# Altium footprint library 5-Pcblib_Led.PcbLib: 25 footprints (part 1 of 2)
Each footprint in its own frame and in the unit in brackets; x right, y up, seen from the top. Pads: shape width x height; smd on the part's side, far side on the other; paste and mask are expansions set on the pad; w line width, h text height; cw(c..) or ccw(c..) is an arc to the next point about the centre after c.
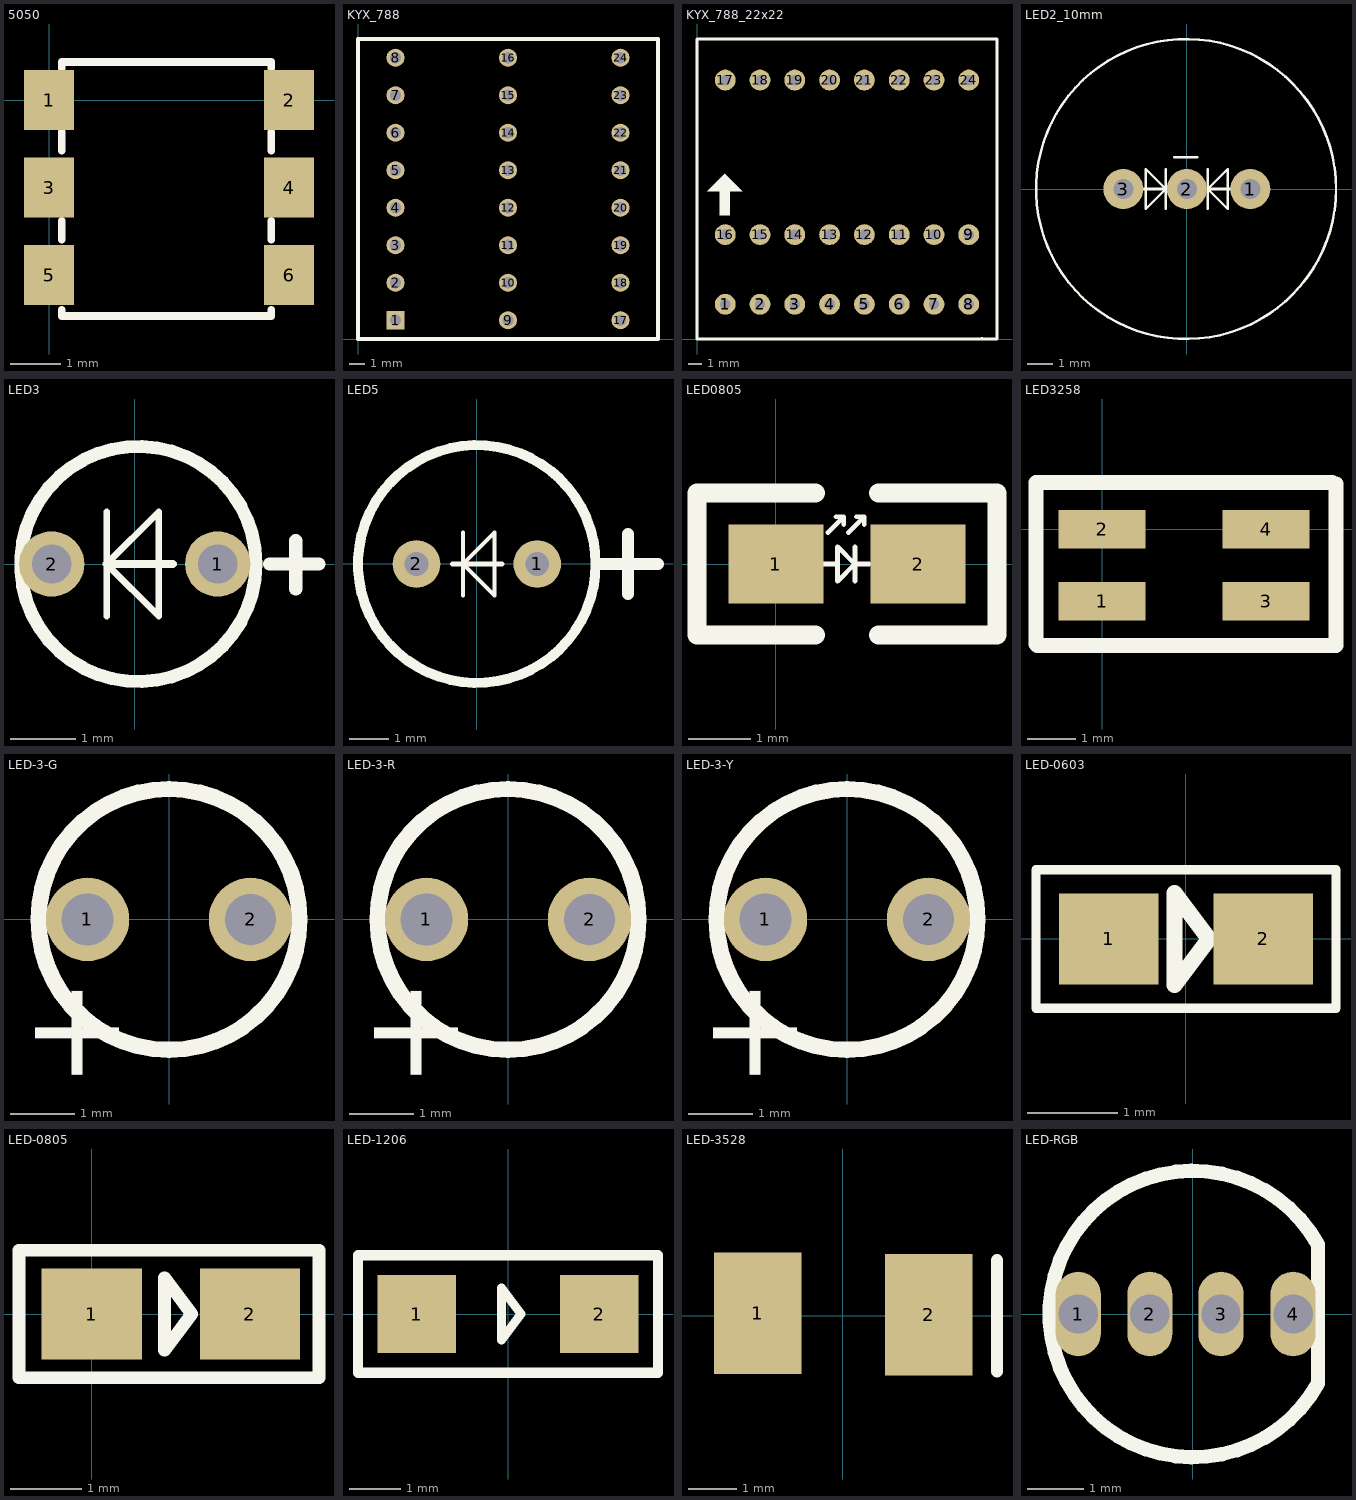
[diagram p0: the footprints below, top view; thin cyan lines are the x and y axes]

## 5050 [mm]
pads (6):
  rect 1x1.2 smd: 1(0,0) 2(4.8,0) 3(0,-1.75) 4(4.8,-1.75) 5(0,-3.5) 6(4.8,-3.5)
Top Overlay:
  lines w0.152: 0.254,-4.191 0.254,-4.318 4.445,-4.318 4.445,-4.191 ; 0.254,-2.794 0.254,-2.413 ; 0.254,-1.016 0.254,-0.635 ; 0.254,0.635 0.254,0.762 4.445,0.762 4.445,0.635 ; 4.445,-2.794 4.445,-2.413 ; 4.445,-1.016 4.445,-0.635

## KYX_788 [mm]
pads (24):
  rect 1.2x1.2 hole 0.762: 1(2.5,1.25)
  round 1.2 hole 0.762: 2(2.5,3.75) 3(2.5,6.25) 4(2.5,8.75) 5(2.5,11.25) 6(2.5,13.75) 7(2.5,16.25) 8(2.5,18.75) 9(10,1.25) 10(10,3.75) 11(10,6.25) 12(10,8.75) 13(10,11.25) 14(10,13.75) 15(10,16.25) 16(10,18.75) 17(17.5,1.25) 18(17.5,3.75) 19(17.5,6.25) 20(17.5,8.75) 21(17.5,11.25) 22(17.5,13.75) 23(17.5,16.25) 24(17.5,18.75)
Top Overlay:
  lines w0.254: 0,0 0,20 20,20 20,0 0,0

## KYX_788_22x22 [mil]
pads (24):
  round 60 hole 30: 1(81.1,100) 2(181.1,100) 3(281.1,100) 4(381.1,100) 5(481.1,100) 6(581.1,100) 7(681.1,100) 8(781.1,100) 9(781.1,300) 10(681.1,300) 11(581.1,300) 12(481.1,300) 13(381.1,300) 14(281.1,300) 15(181.1,300) 16(81.1,300) 17(81.1,744.09) 18(181.1,744.09) 19(281.1,744.09) 20(381.1,744.09) 21(481.1,744.09) 22(581.1,744.09) 23(681.1,744.09) 24(781.1,744.09)
Top Overlay:
  rectangle: 65,355 95,425
  region: 30,425 130,425 80,475
  lines w10: 818.94,1.22 819.92,0.24 ; 862.2,0 0,0 0,862.2 862.2,862.2 862.2,0.24

## LED2_10mm [mm] "DualColor"
pads (3):
  round 1.6 hole 0.8: 1(2.54,0) 2(0,0) 3(-2.54,0)
Top Overlay:
  circle w0.1: c-0.031,0 r6
  lines w0.1: -0.84,-0.8 -0.84,0 ; -0.84,0.8 -0.84,0 ; -0.508,1.27 0.416,1.27 ; 0.84,-0.8 0.84,0 ; 0.84,0.8 0.84,0 ; -0.84,0 -1.64,-0.8 -1.64,0.8 -0.84,0 ; 0.84,0 1.64,0.8 1.64,-0.8 0.84,0
  lines w0.127: -1.854,0 -0.84,0 ; 0.84,0 1.854,0
3D body: height 1, standoff -15.94, extent -5.95,-5.95 5.95,5.95

## LED3 [mm]
pads (2):
  round 1 hole 0.6: 1(1.27,0) 2(-1.27,0)
Top Overlay:
  circle w0.2: c0.054,0 r1.8
  lines w0.1: -0.43,-0.8 -0.43,0 ; -0.43,0.8 -0.43,0 ; -0.43,0 0.37,0.8 0.37,-0.8 -0.43,0
  lines w0.127: -0.43,0 0.584,0
  lines w0.2: 2.066,0 2.819,0 ; 2.464,-0.381 2.464,0.356
3D body: height 5.2, standoff -2, extent -1.778,-1.99 1.742,2.007

## LED5 [mm]
pads (2):
  round 1.2 hole 0.6: 1(1.524,0) 2(-1.524,0)
Top Overlay:
  circle w0.254: c0,0 r3
  lines w0.1: -0.354,-0.8 -0.354,0 ; -0.354,0.8 -0.354,0 ; -0.354,0 0.446,0.8 0.446,-0.8 -0.354,0
  lines w0.127: -0.61,0 0.635,0
  lines w0.305: 3.048,0 4.572,0 ; 3.81,-0.762 3.81,0.762
3D body: height 8.6, standoff -2, extent -2.827,-2.905 2.523,2.794

## LED0805 [mil]
height 35
pads (2):
  rect 60x50 smd: 1(0,0) 2(90,0)
Top Overlay:
  lines w3: 29,0 39,0 ; 33,20 43,30 ; 38,30 43,30 ; 43,25 43,30 ; 46,20 56,30 ; 50,-11 50,11 ; 51,30 56,30 ; 56,25 56,30 ; 59,0 50,0 ; 50,0 39,11 39,-11 50,0
  lines w12: 25,-45 -50,-45 -50,45 25,45 ; 65,-45 140,-45 140,45 65,45

## LED3258 [mm]
pads (4):
  rect 1.8x0.8 smd: 1(0,-1.5) 2(0,0) 3(3.4,-1.5) 4(3.4,0)
Top Overlay:
  lines w0.305: -1.372,0.94 -1.372,-2.388 -1.346,-2.413 4.851,-2.413 ; -1.372,0.965 4.775,0.965 ; 4.851,-2.388 4.851,0.94
3D body: height 1.9, standoff 0, extent -0.099,-2.112 3.401,0.588

## LED-3-G [mm]
pads (2):
  round 1.3 hole 0.81: 1(-1.27,0)
  round 1.3 hole 0.8: 2(1.27,0)
Top Overlay:
  circle w0.254: c0,0 r2.032
  text "+" at -0.775,-2.642 h1.52
3D body: height 14.25, standoff -6, extent -2.021,-2.003 1.499,1.994

## LED-3-R [mm]
pads (2):
  round 1.3 hole 0.81: 1(-1.27,0)
  round 1.3 hole 0.8: 2(1.27,0)
Top Overlay:
  circle w0.254: c0,0 r2.032
  text "+" at -0.775,-2.642 h1.52
3D body: height 14.25, standoff -6, extent -2.014,-1.99 1.506,2.007

## LED-3-Y [mm]
pads (2):
  round 1.3 hole 0.81: 1(-1.27,0)
  round 1.3 hole 0.8: 2(1.27,0)
Top Overlay:
  circle w0.254: c0,0 r2.032
  text "+" at -0.775,-2.642 h1.52
3D body: height 14.25, standoff -6, extent -2.013,-2.024 1.507,1.973

## LED-0603 [mm]
height 0.6
pads (2):
  rect 1.1x1 smd: 1(-0.85,0) 2(0.85,0)
Top Overlay:
  lines w0.1: -1.651,-0.762 0.254,-0.762 1.651,-0.762 1.651,0.762 0.254,0.762 -1.651,0.762 -1.651,-0.762
  lines w0.178: -0.127,-0.508 0.254,0 -0.127,0.508 -0.127,-0.508
3D body: height 1.1, standoff 0, extent -0.762,-0.381 0.858,0.419

## LED-0805 [mm]
pads (2):
  rect 1.4x1.27 smd: 1(0,0) 2(2.21,0)
Top Overlay:
  lines w0.178: -1.016,-0.889 3.175,-0.889 3.175,0.889 -1.016,0.889 -1.016,0.445 -1.016,-0.445 -1.016,-0.889 ; 1.016,-0.508 1.016,0.508 1.397,0 1.016,-0.508
3D body: height 1.1, standoff 0, extent 0.006,-0.615 2.026,0.635

## LED-1206 [mil] "贴片发光二极管"
height 59.06
pads (2):
  rect 60x60 smd: 1(-70,0) 2(70,0)
Top Overlay:
  lines w7: -5,-20 -5,20 10,0 -5,-20
  lines w7.87: -115,-45 40,-45 115,-45 115,45 40,45 -115,45 -115,-45
3D body: height 43.31, standoff 0, extent -60,-35 65.98,27.99

## LED-3528 [mm] "贴片二极管"
height 3
pads (2):
  rect 1.8x2.5 smd: 1(-1.753,0.052) 2(1.772,0.027)
Top Overlay:
  lines w0.254: 3.175,-1.143 3.175,1.143

## LED-RGB [mm] "三基色二极管"
height 6
pads (4):
  oval 0.8x1.5 hole 0.7: 1(-2.032,0) 2(-0.762,0) 3(0.5,0) 4(1.778,0)
Top Overlay:
  lines w0.254: 2.22,-1.234 cw(c0,0) 2.22,1.234 2.22,-1.234